# Altium schematic symbol library SN74LV1T34.Schlib: 1 symbol
Pins are listed as number, name and electrical type; pins without a type are passive.

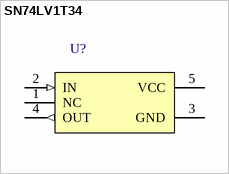
[diagram p0: symbol SN74LV1T34]

## SN74LV1T34
designator U?
Single Power Supply Single Buffer GATE CMOS Logic Level Shifter
pins: 1 NC, 2 IN (in), 3 GND (power), 4 OUT (out), 5 VCC (power) "1.8-5.0V"